# Altium schematic symbol library Sensor_Proximity.SchLib: 30 symbols
Pins are listed as number, name and electrical type; pins without a type are passive.

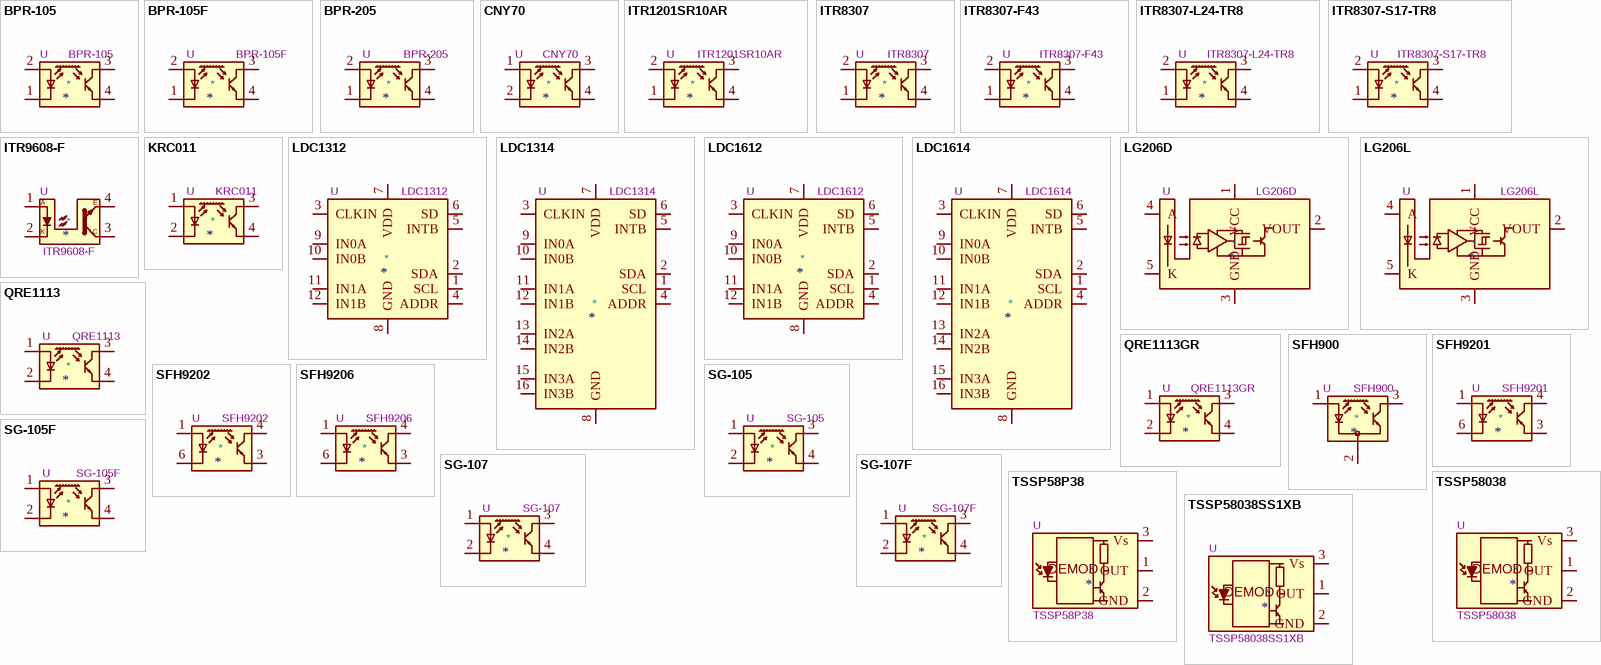
[diagram p0: symbols BPR-105 to TSSP58038SS1XB]

## BPR-105
designator *  value BPR-105  Reference: U
ki_keywords: Reflective Optical Sensor Opto; ki_description: Subminiature Reflective Optical Sensor, SMD-package with PCB-cutout; ki_fp_filters: Everlight*ITR8307*; Footprint: OptoDevice:Everlight_ITR8307; Datasheet: http://www.ystone.com.tw/en/data/goods/IRPT/Photo%20Interrupters-Reflective%20Type.pdf
pins: 1 K, 2 A, 3 C, 4 E

## BPR-105F
designator *  value BPR-105F  Reference: U
ki_keywords: Reflective Optical Sensor Opto; ki_description: Subminiature Reflective Optical Sensor, DIP-like THT-package; ki_fp_filters: Everlight*ITR8307F43*; Footprint: OptoDevice:Everlight_ITR8307F43; Datasheet: http://www.ystone.com.tw/en/data/goods/IRPT/Photo%20Interrupters-Reflective%20Type.pdf
pins: 1 K, 2 A, 3 C, 4 E

## BPR-205
designator *  value BPR-205  Reference: U
ki_keywords: Reflective Optical Sensor Opto; ki_description: Subminiature Reflective Optical Sensor, Darlington photo transistor, SMD-package with PCB-cutout; ki_fp_filters: Everlight*ITR8307*; Footprint: OptoDevice:Everlight_ITR8307; Datasheet: http://www.ystone.com.tw/en/data/goods/IRPT/Photo%20Interrupters-Reflective%20Type.pdf
pins: 1 K, 2 A, 3 C, 4 E

## CNY70
designator *  value CNY70  Reference: U
ki_keywords: Reflective Optical Sensor Opto; ki_description: Reflective Optical Sensor with Transistor Output; ki_fp_filters: Vishay*CNY70*; Footprint: OptoDevice:Vishay_CNY70; Datasheet: https://www.vishay.com/docs/83751/cny70.pdf
pins: 1 A, 2 K, 3 C, 4 E

## ITR1201SR10AR
designator *  value ITR1201SR10AR  Reference: U
ki_keywords: Reflective Optical Sensor Opto reflex coupler; ki_description: Miniature Reflective Optical Object Sensor, SMD-4; ki_fp_filters: Everlight*ITR1201SR10AR*; Footprint: OptoDevice:Everlight_ITR1201SR10AR; Datasheet: http://www.everlight.com/file/ProductFile/ITR1201SR10AR-TR.pdf
pins: 1 K, 2 A, 3, 4

## ITR8307
designator *  value ITR8307  Reference: U
ki_keywords: Reflective Optical Sensor Opto; ki_description: Subminiature Reflective Optical Sensor, SMD-package with PCB-cutout; ki_fp_filters: Everlight*ITR8307*; Footprint: OptoDevice:Everlight_ITR8307; Datasheet: http://www.everlight.com/file/ProductFile/ITR8307.pdf
pins: 1 K, 2 A, 3 C, 4 E

## ITR8307-F43
designator *  value ITR8307-F43  Reference: U
ki_keywords: Reflective Optical Sensor Opto; ki_description: Subminiature Reflective Optical Sensor, DIP-like THT-package; ki_fp_filters: Everlight*ITR8307F43*; Footprint: OptoDevice:Everlight_ITR8307F43; Datasheet: https://everlighteurope.com/index.php?controller=attachment&id_attachment=5385
pins: 1 K, 2 A, 3 C, 4 E

## ITR8307-L24-TR8
designator *  value ITR8307-L24-TR8  Reference: U
ki_keywords: Reflective Optical Sensor Opto reflex coupler; ki_description: Miniature Reflective Optical Object Sensor, SMD-4; ki_fp_filters: Everlight*ITR1201SR10AR*; Footprint: OptoDevice:Everlight_ITR1201SR10AR; Datasheet: https://www.everlight.com/file/ProductFile/ITR8307-L24-TR8.pdf
pins: 1 K, 2 A, 3, 4

## ITR8307-S17-TR8
designator *  value ITR8307-S17-TR8  Reference: U
ki_keywords: Reflective Optical Sensor Opto reflex coupler; ki_description: Miniature Reflective Optical Object Sensor, SMD-4; ki_fp_filters: Everlight*ITR1201SR10AR*; Footprint: OptoDevice:Everlight_ITR1201SR10AR; Datasheet: https://datasheet.lcsc.com/szlcsc/1810010232_Everlight-Elec-ITR8307-S17-TR8-B_C81632.pdf
pins: 1 K, 2 A, 3, 4

## ITR9608-F
designator *  value ITR9608-F  Reference: U
ki_keywords: Photointerrupter opto interrupter infrared LED fast response time infrared 940nm 5mm gap; ki_description: Photointerrupter infrared LED with photo IC, -25 to +85 degree Celsius; ki_fp_filters: *ITR9608*; Footprint: OptoDevice:Everlight_ITR9608-F; Datasheet: https://everlighteurope.com/index.php?controller=attachment&id_attachment=5389
pins: 1, 2, 3, 4
text: A; E; K; C

## KRC011
designator *  value KRC011  Reference: U
ki_keywords: Reflective Optical Sensor Opto; ki_description: Subminiature Reflective Optical Sensor; ki_fp_filters: Kingbright?KRC011*; Footprint: OptoDevice:Kingbright_KRC011_Vertical; Datasheet: http://www.kingbright.com/attachments/file/psearch/000/00/00/KRC011(Ver.15).pdf
pins: 1 A, 2 K, 3 C, 4 E

## LDC1312
designator *  value LDC1312  Reference: U
ki_keywords: inductance sensor; ki_description: Inductance to digital converter, 2-channel 12-bit, WSON-12; ki_fp_filters: WSON*1EP*4x4mm*P0.5mm*; Footprint: Package_SON:WSON-12-1EP_4x4mm_P0.5mm_EP2.6x3mm_ThermalVias; Datasheet: http://www.ti.com/lit/ds/symlink/ldc1312.pdf
pins: 1 SCL, 2 SDA, 3 CLKIN, 4 ADDR, 5 INTB, 6 SD, 7 VDD, 8 GND, 9 IN0A, 10 IN0B, 11 IN1A, 12 IN1B, 13 GND hidden

## LDC1314
designator *  value LDC1314  Reference: U
ki_keywords: inductance sensor; ki_description: Inductance to digital converter, 4-channel 12-bit, WQFN-16; ki_fp_filters: WQFN*1EP*4x4mm*P0.5mm*; Footprint: Package_DFN_QFN:WQFN-16-1EP_4x4mm_P0.5mm_EP2.6x2.6mm_ThermalVias; Datasheet: http://www.ti.com/lit/ds/symlink/ldc1312.pdf
pins: 1 SCL, 2 SDA, 3 CLKIN, 4 ADDR, 5 INTB, 6 SD, 7 VDD, 8 GND, 9 IN0A, 10 IN0B, 11 IN1A, 12 IN1B, 13 IN2A, 14 IN2B, 15 IN3A, 16 IN3B, 17 GND hidden

## LDC1612
designator *  value LDC1612  Reference: U
ki_keywords: inductance sensor; ki_description: Inductance to digital converter, 2-channel 28-bit, WSON-12; ki_fp_filters: WSON*1EP*4x4mm*P0.5mm*; Footprint: Package_SON:WSON-12-1EP_4x4mm_P0.5mm_EP2.6x3mm_ThermalVias; Datasheet: http://www.ti.com/lit/ds/symlink/ldc1612.pdf
pins: 1 SCL, 2 SDA, 3 CLKIN, 4 ADDR, 5 INTB, 6 SD, 7 VDD, 8 GND, 9 IN0A, 10 IN0B, 11 IN1A, 12 IN1B, 13 GND hidden

## LDC1614
designator *  value LDC1614  Reference: U
ki_keywords: inductance sensor; ki_description: Inductance to digital converter, 4-channel 28-bit, WQFN-16; ki_fp_filters: WQFN*1EP*4x4mm*P0.5mm*; Footprint: Package_DFN_QFN:WQFN-16-1EP_4x4mm_P0.5mm_EP2.6x2.6mm_ThermalVias; Datasheet: http://www.ti.com/lit/ds/symlink/ldc1612.pdf
pins: 1 SCL, 2 SDA, 3 CLKIN, 4 ADDR, 5 INTB, 6 SD, 7 VDD, 8 GND, 9 IN0A, 10 IN0B, 11 IN1A, 12 IN1B, 13 IN2A, 14 IN2B, 15 IN3A, 16 IN3B, 17 GND hidden

## LG206D
designator *  value LG206D  Reference: U
ki_keywords: Photointerrupter infrared LED with photo IC, non-inverting output, -0.5V to 17V VDD, -20 to +85 degree Celsius, LG206D; ki_fp_filters: Kodenshi?LG206D*; Footprint: OptoDevice:Kodenshi_LG206D; Datasheet: http://kodenshi.co.jp/products/pdf/sensor/photointerrupter_ic/LG206D.pdf; ki_description: Photointerrupter infrared LED with photo IC, non-inverting output, -0.5V to 17V VDD, -20 to +85 degree Celsius, LG206D
pins: 1 VCC, 2 VOUT, 3 GND, 4 A, 5 K

## LG206L
designator *  value LG206L  Reference: U
ki_keywords: Photointerrupter infrared LED with photo IC, inverting output, -0.5V to 17V VDD, -20 to +85 degree Celsius, LG206X; ki_fp_filters: Kodenshi?LG206L*; Footprint: OptoDevice:Kodenshi_LG206L; Datasheet: http://kodenshi.co.jp/products/pdf/sensor/photointerrupter_ic/LG206L.pdf; ki_description: Photointerrupter infrared LED with photo IC, inverting output, -0.5V to 17V VDD, -20 to +85 degree Celsius, LG206X
pins: 1 VCC, 2 VOUT, 3 GND, 4 A, 5 K

## QRE1113
designator *  value QRE1113  Reference: U
ki_keywords: Reflective Optical Sensor Opto reflex coupler; ki_description: Miniature Reflective Optical Object Sensor, DIP-like THT-package; ki_fp_filters: OnSemi*CASE100AQ*; Footprint: OptoDevice:OnSemi_CASE100AQ; Datasheet: http://www.onsemi.com/pub/Collateral/QRE1113-D.PDF
pins: 1 A, 2 K, 3, 4

## QRE1113GR
designator *  value QRE1113GR  Reference: U
ki_keywords: Reflective Optical Sensor Opto reflex coupler; ki_description: Miniature Reflective Optical Object Sensor, SMD-4; ki_fp_filters: OnSemi*CASE100CY*; Footprint: OptoDevice:OnSemi_CASE100CY; Datasheet: http://www.onsemi.com/pub/Collateral/QRE1113-D.PDF
pins: 1 A, 2 K, 3, 4

## SFH900
designator *  value SFH900  Reference: U
ki_keywords: Reflective Optical Sensor Opto; ki_description: Miniature Light Reflection Switches; ki_fp_filters: Siemens*SFH900*; Footprint: OptoDevice:Siemens_SFH900; Datasheet: https://www.batronix.com/pdf/sfh900.pdf
pins: 1 A, 2 K, 3 C

## SFH9201
designator *  value SFH9201  Reference: U
ki_keywords: Reflective Opto Interrupter Coupler; ki_description: Reflective Opto Interrupter/Coupler, SMD-6; ki_fp_filters: Osram*SFH9x0x*; Footprint: OptoDevice:Osram_SFH9x0x; Datasheet: https://media.digikey.com/pdf/Data%20Sheets/Osram%20PDFs/SFH_9201.pdf
pins: 1 A, 2 NC hidden, 3 E, 4 C, 5 NC hidden, 6 K

## SFH9202
designator *  value SFH9202  Reference: U
ki_keywords: Reflective Opto Interrupter Coupler; ki_description: Reflective Opto Interrupter/Coupler, SMD-6; ki_fp_filters: Osram*SFH9x0x*; Footprint: OptoDevice:Osram_SFH9x0x; Datasheet: http://www.osram-os.com/Graphics/XPic0/00083379_0.pdf/SFH%209202,%20Lead%20%28Pb%29%20Free%20Product%20-%20RoHS%20Compliant.pdf
pins: 1 A, 2 NC hidden, 3 E, 4 C, 5 NC hidden, 6 K

## SFH9206
designator *  value SFH9206  Reference: U
ki_keywords: Reflective Opto Interrupter Coupler; ki_description: Reflective Opto Interrupter/Coupler, SMD-6; ki_fp_filters: Osram*SFH9x0x*; Footprint: OptoDevice:Osram_SFH9x0x; Datasheet: http://www.osram-os.com/Graphics/XPic6/00200860_0.pdf
pins: 1 A, 2 NC hidden, 3 E, 4 C, 5 NC hidden, 6 K

## SG-105
designator *  value SG-105  Reference: U
ki_keywords: Reflective Optical Sensor Opto; ki_description: Subminiature Reflective Optical Sensor, SMD-package with PCB-cutout; ki_fp_filters: Kodenshi*SG105*; Footprint: OptoDevice:Kodenshi_SG105; Datasheet: http://www.kodenshi.co.jp/products/pdf/sensor/photointerrupter_ref/SG-105.pdf
pins: 1 A, 2 K, 3 C, 4 E

## SG-105F
designator *  value SG-105F  Reference: U
ki_keywords: Reflective Optical Sensor Opto; ki_description: Subminiature Reflective Optical Sensor, DIP-lie THT-package; ki_fp_filters: Kodenshi*SG105F*; Footprint: OptoDevice:Kodenshi_SG105F; Datasheet: http://www.kodenshi.co.jp/products/pdf/sensor/photointerrupter_ref/SG-105F.pdf
pins: 1 A, 2 K, 3 C, 4 E

## SG-107
designator *  value SG-107  Reference: U
ki_keywords: Reflective Optical Sensor Opto; ki_description: Subminiature Reflective Optical Sensor, SMD-package with PCB-cutout; ki_fp_filters: Kodenshi*SG105*; Footprint: OptoDevice:Kodenshi_SG105; Datasheet: http://www.kodenshi.co.jp/products/pdf/sensor/photointerrupter_ref/SG-107.pdf
pins: 1 A, 2 K, 3 C, 4 E

## SG-107F
designator *  value SG-107F  Reference: U
ki_keywords: Reflective Optical Sensor Opto; ki_description: Subminiature Reflective Optical Sensor, DIP-lie THT-package; ki_fp_filters: Kodenshi*SG105F*; Footprint: OptoDevice:Kodenshi_SG105F; Datasheet: https://www.pacer.co.uk/Assets/User/1055-SG-107F.pdf
pins: 1 A, 2 K, 3 C, 4 E

## TSSP58P38
designator *  value TSSP58P38  Reference: U
ki_keywords: opto IR receiver; ki_description: Photo Modules for PCM Remote Control Systems; ki_fp_filters: Vishay*MINICAST*; Footprint: OptoDevice:Vishay_MINICAST-3Pin; Datasheet: http://www.vishay.com/docs/82462/tsop581.pdf
pins: 1 OUT, 2 GND, 3 Vs
text: DEMOD

## TSSP58038
designator *  value TSSP58038  Reference: U
ki_keywords: opto IR receiver proximity sensor; ki_description: IR Detector for Mid Range Proximity Sensor; ki_fp_filters: Vishay*MINICAST*; Footprint: OptoDevice:Vishay_MINICAST-3Pin; Datasheet: http://www.vishay.com/docs/82476/tssp58p38.pdf
pins: 1 OUT, 2 GND, 3 Vs
text: DEMOD

## TSSP58038SS1XB
designator *  value TSSP58038SS1XB  Reference: U
ki_keywords: opto IR receiver light barrier; ki_description: IR Receiver Module for Light Barrier Systems; ki_fp_filters: Vishay*MINICAST*; Footprint: OptoDevice:Vishay_MINICAST-3Pin; Datasheet: http://www.vishay.com/docs/82740/tssp58038ss1xb.pdf
pins: 1 OUT, 2 GND, 3 Vs
text: DEMOD